# EAGLE library part 25PIN_DISPLAY (library chiptron_cz)
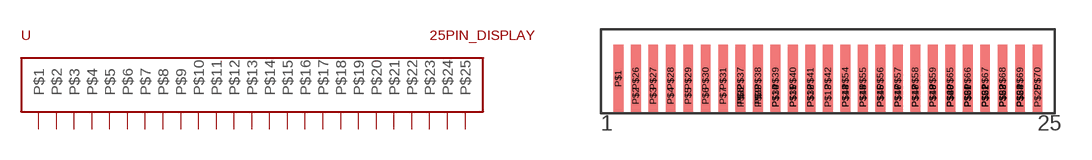
[diagram p10: symbol with the pads of 25PIN_DISPLAY; footprint 25PIN_DISPLAY]

Designator prefix -

## 25PIN_DISPLAY  [25PIN_DISPLAY]
P$1  P$1
P$2  P$2
P$3  P$3
P$4  P$4
P$5  P$5
P$6  P$6
P$7  P$7
P$8  P$8
P$9  P$9
P$10  P$10
P$11  P$11
P$12  P$12
P$13  P$13
P$14  P$14
P$15  P$15
P$16  P$16
P$17  P$17
P$18  P$18
P$19  P$19
P$20  P$20
P$21  P$21
P$22  P$22
P$23  P$23
P$24  P$24
P$25  P$25

## Footprint 25PIN_DISPLAY (pad centres in mm)
SMD PCB display connector
smd 0.508 x 3.48: P$1 -10.8,0.9; P$26 -9.9,0.9; P$27 -9,0.9; P$28 -8.1,0.9; P$29 -7.2,0.9; P$30 -6.3,0.9; P$31 -5.4,0.9; P$37 -4.5,0.9; P$38 -3.6,0.9; P$39 -2.7,0.9; P$40 -1.8,0.9; P$41 -0.9,0.9; P$42 0,0.9; P$54 0.9,0.9; P$55 1.8,0.9; P$56 2.7,0.9; P$57 3.6,0.9; P$58 4.5,0.9; P$59 5.4,0.9; P$65 6.3,0.9; P$66 7.2,0.9; P$67 8.1,0.9; P$68 9,0.9; P$69 9.9,0.9; P$70 10.8,0.9
smd 0.508 x 1.016: P$2 -9.9,0; P$3 -9,0; P$4 -8.1,0; P$5 -7.2,0; P$6 -6.3,0; P$7 -5.4,0; P$8 -4.5,0; P$9 -3.6,0; P$10 -2.7,0; P$11 -1.8,0; P$12 -0.9,0; P$13 0,0; P$14 0.9,0; P$15 1.8,0; P$16 2.7,0; P$17 3.6,0; P$18 4.5,0; P$19 5.4,0; P$20 6.3,0; P$21 7.2,0; P$22 8.1,0; P$23 9,0; P$24 9.9,0; P$25 10.8,0; P$32 -4.5,0; P$33 -3.6,0; P$34 -2.7,0; P$35 -1.8,0; P$36 -0.9,0; P$43 0.9,0; P$44 1.8,0; P$45 2.7,0; P$46 3.6,0; P$47 4.5,0; P$48 5.4,0; P$49 6.3,0; P$50 7.2,0; P$51 8.1,0; P$52 9,0; P$53 9.9,0; P$60 6.3,0; P$61 7.2,0; P$62 8.1,0; P$63 9,0; P$64 9.9,0